# Altium schematic symbol library WE-CBF_0402.SchLib: 34 symbols
Pins are listed as number, name and electrical type; pins without a type are passive.

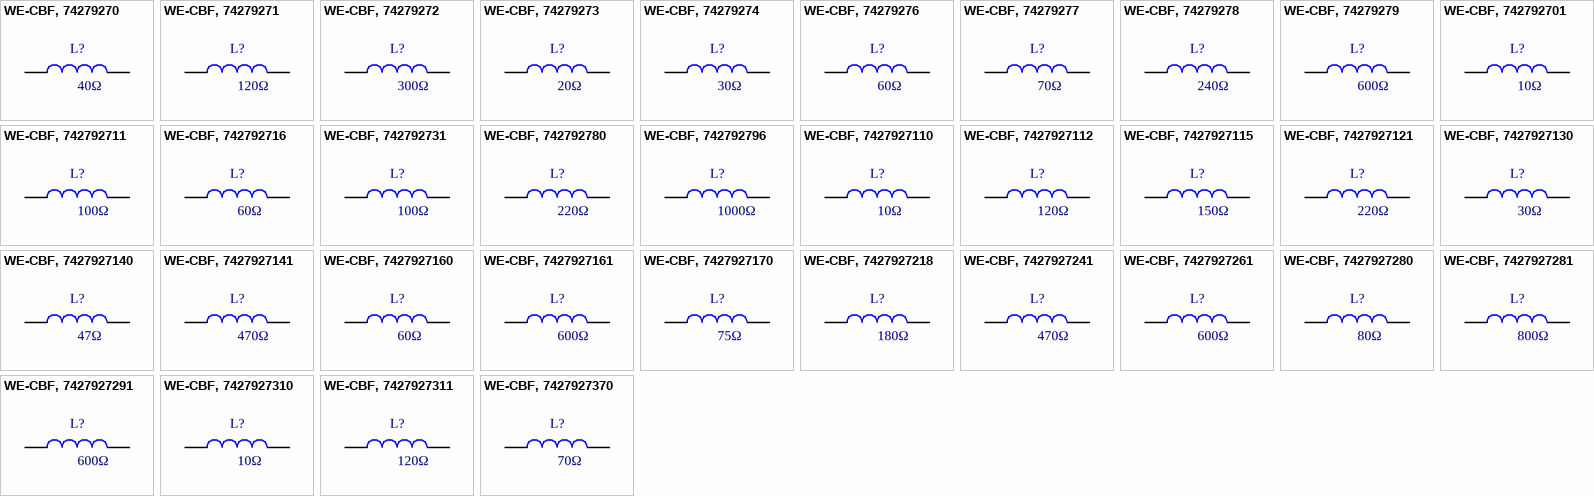
[diagram p0: symbols WE-CBF, 74279270 to WE-CBF, 7427927370]

## WE-CBF, 74279270
designator L?, comment 40Ω
WE-CBF SMD EMI Suppression Ferrite Bead, 0402, 40Ω; PartNumber: 74279270; Type: Wide Band; PublishedDate: Aug 2016; Publisher: Wurth Elektronik; ComponentLink1Description: Manufacturer; ComponentLink1URL: http://www.we-online.de; ComponentLink2Description: Datasheet; ComponentLink2URL: http://katalog.we-online.de/pbs/datasheet/74279270.pdf; Value: 40Ω; Size: 0402
footprint WE-CBF_0402_Wide Band
pins: 1, 2

## WE-CBF, 74279271
designator L?, comment 120Ω
WE-CBF SMD EMI Suppression Ferrite Bead, 0402, 120Ω; PartNumber: 74279271; Type: Wide Band; PublishedDate: Aug 2016; Publisher: Wurth Elektronik; ComponentLink1Description: Manufacturer; ComponentLink1URL: http://www.we-online.de; ComponentLink2Description: Datasheet; ComponentLink2URL: http://katalog.we-online.de/pbs/datasheet/74279271.pdf; Value: 120Ω; Size: 0402
footprint WE-CBF_0402_Wide Band
pins: 1, 2

## WE-CBF, 74279272
designator L?, comment 300Ω
WE-CBF SMD EMI Suppression Ferrite Bead, 0402, 300Ω; PartNumber: 74279272; Type: Wide Band; PublishedDate: Aug 2016; Publisher: Wurth Elektronik; ComponentLink1Description: Manufacturer; ComponentLink1URL: http://www.we-online.de; ComponentLink2Description: Datasheet; ComponentLink2URL: http://katalog.we-online.de/pbs/datasheet/74279272.pdf; Value: 300Ω; Size: 0402
footprint WE-CBF_0402_Wide Band
pins: 1, 2

## WE-CBF, 74279273
designator L?, comment 20Ω
WE-CBF SMD EMI Suppression Ferrite Bead, 0402, 20Ω; PartNumber: 74279273; Type: High Speed; PublishedDate: Aug 2016; Publisher: Wurth Elektronik; ComponentLink1Description: Manufacturer; ComponentLink1URL: http://www.we-online.de; ComponentLink2Description: Datasheet; ComponentLink2URL: http://katalog.we-online.de/pbs/datasheet/74279273.pdf; Value: 20Ω; Size: 0402
footprint WE-CBF_0402_High Speed
pins: 1, 2

## WE-CBF, 74279274
designator L?, comment 30Ω
WE-CBF SMD EMI Suppression Ferrite Bead, 0402, 30Ω; PartNumber: 74279274; Type: Wide Band; PublishedDate: Aug 2016; Publisher: Wurth Elektronik; ComponentLink1Description: Manufacturer; ComponentLink1URL: http://www.we-online.de; ComponentLink2Description: Datasheet; ComponentLink2URL: http://katalog.we-online.de/pbs/datasheet/74279274.pdf; Value: 30Ω; Size: 0402
footprint WE-CBF_0402_Wide Band
pins: 1, 2

## WE-CBF, 74279276
designator L?, comment 60Ω
WE-CBF SMD EMI Suppression Ferrite Bead, 0402, 60Ω; PartNumber: 74279276; Type: Wide Band; PublishedDate: Aug 2016; Publisher: Wurth Elektronik; ComponentLink1Description: Manufacturer; ComponentLink1URL: http://www.we-online.de; ComponentLink2Description: Datasheet; ComponentLink2URL: http://katalog.we-online.de/pbs/datasheet/74279276.pdf; Value: 60Ω; Size: 0402
footprint WE-CBF_0402_Wide Band
pins: 1, 2

## WE-CBF, 74279277
designator L?, comment 70Ω
WE-CBF SMD EMI Suppression Ferrite Bead, 0402, 70Ω; PartNumber: 74279277; Type: Wide Band; PublishedDate: Aug 2016; Publisher: Wurth Elektronik; ComponentLink1Description: Manufacturer; ComponentLink1URL: http://www.we-online.de; ComponentLink2Description: Datasheet; ComponentLink2URL: http://katalog.we-online.de/pbs/datasheet/74279277.pdf; Value: 70Ω; Size: 0402
footprint WE-CBF_0402_Wide Band
pins: 1, 2

## WE-CBF, 74279278
designator L?, comment 240Ω
WE-CBF SMD EMI Suppression Ferrite Bead, 0402, 240Ω; PartNumber: 74279278; Type: Wide Band; PublishedDate: Aug 2016; Publisher: Wurth Elektronik; ComponentLink1Description: Manufacturer; ComponentLink1URL: http://www.we-online.de; ComponentLink2Description: Datasheet; ComponentLink2URL: http://katalog.we-online.de/pbs/datasheet/74279278.pdf; Value: 240Ω; Size: 0402
footprint WE-CBF_0402_Wide Band
pins: 1, 2

## WE-CBF, 74279279
designator L?, comment 600Ω
WE-CBF SMD EMI Suppression Ferrite Bead, 0402, 600Ω; PartNumber: 74279279; Type: Wide Band; PublishedDate: Aug 2016; Publisher: Wurth Elektronik; ComponentLink1Description: Manufacturer; ComponentLink1URL: http://www.we-online.de; ComponentLink2Description: Datasheet; ComponentLink2URL: http://katalog.we-online.de/pbs/datasheet/74279279.pdf; Value: 600Ω; Size: 0402
footprint WE-CBF_0402_Wide Band
pins: 1, 2

## WE-CBF, 742792701
designator L?, comment 10Ω
WE-CBF SMD EMI Suppression Ferrite Bead, 0402, 10Ω; PartNumber: 742792701; Type: Wide Band; PublishedDate: Aug 2016; Publisher: Wurth Elektronik; ComponentLink1Description: Manufacturer; ComponentLink1URL: http://www.we-online.de; ComponentLink2Description: Datasheet; ComponentLink2URL: http://katalog.we-online.de/pbs/datasheet/742792701.pdf; Value: 10Ω; Size: 0402
footprint WE-CBF_0402_Wide Band
pins: 1, 2

## WE-CBF, 742792711
designator L?, comment 100Ω
WE-CBF SMD EMI Suppression Ferrite Bead, 0402, 100Ω; PartNumber: 742792711; Type: High Speed; PublishedDate: Aug 2016; Publisher: Wurth Elektronik; ComponentLink1Description: Manufacturer; ComponentLink1URL: http://www.we-online.de; ComponentLink2Description: Datasheet; ComponentLink2URL: http://katalog.we-online.de/pbs/datasheet/742792711.pdf; Value: 100Ω; Size: 0402
footprint WE-CBF_0402_High Speed
pins: 1, 2

## WE-CBF, 742792716
designator L?, comment 60Ω
WE-CBF SMD EMI Suppression Ferrite Bead, 0402, 60Ω; PartNumber: 742792716; Type: High Speed; PublishedDate: Aug 2016; Publisher: Wurth Elektronik; ComponentLink1Description: Manufacturer; ComponentLink1URL: http://www.we-online.de; ComponentLink2Description: Datasheet; ComponentLink2URL: http://katalog.we-online.de/pbs/datasheet/742792716.pdf; Value: 60Ω; Size: 0402
footprint WE-CBF_0402_High Speed
pins: 1, 2

## WE-CBF, 742792731
designator L?, comment 100Ω
WE-CBF SMD EMI Suppression Ferrite Bead, 0402, 100Ω; PartNumber: 742792731; Type: High Current; PublishedDate: Aug 2016; Publisher: Wurth Elektronik; ComponentLink1Description: Manufacturer; ComponentLink1URL: http://www.we-online.de; ComponentLink2Description: Datasheet; ComponentLink2URL: http://katalog.we-online.de/pbs/datasheet/742792731.pdf; Value: 100Ω; Size: 0402
footprint WE-CBF_0402_High Current
pins: 1, 2

## WE-CBF, 742792780
designator L?, comment 220Ω
WE-CBF SMD EMI Suppression Ferrite Bead, 0402, 220Ω; PartNumber: 742792780; Type: Wide Band; PublishedDate: Aug 2016; Publisher: Wurth Elektronik; ComponentLink1Description: Manufacturer; ComponentLink1URL: http://www.we-online.de; ComponentLink2Description: Datasheet; ComponentLink2URL: http://katalog.we-online.de/pbs/datasheet/742792780.pdf; Value: 220Ω; Size: 0402
footprint WE-CBF_0402_Wide Band
pins: 1, 2

## WE-CBF, 742792796
designator L?, comment 1000Ω
WE-CBF SMD EMI Suppression Ferrite Bead, 0402, 1000Ω; PartNumber: 742792796; Type: Wide Band; PublishedDate: Aug 2016; Publisher: Wurth Elektronik; ComponentLink1Description: Manufacturer; ComponentLink1URL: http://www.we-online.de; ComponentLink2Description: Datasheet; ComponentLink2URL: http://katalog.we-online.de/pbs/datasheet/742792796.pdf; Value: 1000Ω; Size: 0402
footprint WE-CBF_0402_Wide Band
pins: 1, 2

## WE-CBF, 7427927110
designator L?, comment 10Ω
WE-CBF SMD EMI Suppression Ferrite Bead, 0402, 10Ω; PartNumber: 7427927110; Type: High Speed; PublishedDate: Aug 2016; Publisher: Wurth Elektronik; ComponentLink1Description: Manufacturer; ComponentLink1URL: http://www.we-online.de; ComponentLink2Description: Datasheet; ComponentLink2URL: http://katalog.we-online.de/pbs/datasheet/7427927110.pdf; Value: 10Ω; Size: 0402
footprint WE-CBF_0402_High Speed
pins: 1, 2

## WE-CBF, 7427927112
designator L?, comment 120Ω
WE-CBF SMD EMI Suppression Ferrite Bead, 0402, 120Ω; PartNumber: 7427927112; Type: High Speed; PublishedDate: Aug 2016; Publisher: Wurth Elektronik; ComponentLink1Description: Manufacturer; ComponentLink1URL: http://www.we-online.de; ComponentLink2Description: Datasheet; ComponentLink2URL: http://katalog.we-online.de/pbs/datasheet/7427927112.pdf; Value: 120Ω; Size: 0402
footprint WE-CBF_0402_High Speed
pins: 1, 2

## WE-CBF, 7427927115
designator L?, comment 150Ω
WE-CBF SMD EMI Suppression Ferrite Bead, 0402, 150Ω; PartNumber: 7427927115; Type: High Speed; PublishedDate: Aug 2016; Publisher: Wurth Elektronik; ComponentLink1Description: Manufacturer; ComponentLink1URL: http://www.we-online.de; ComponentLink2Description: Datasheet; ComponentLink2URL: http://katalog.we-online.de/pbs/datasheet/7427927115.pdf; Value: 150Ω; Size: 0402
footprint WE-CBF_0402_High Speed
pins: 1, 2

## WE-CBF, 7427927121
designator L?, comment 220Ω
WE-CBF SMD EMI Suppression Ferrite Bead, 0402, 220Ω; PartNumber: 7427927121; Type: High Speed; PublishedDate: Aug 2016; Publisher: Wurth Elektronik; ComponentLink1Description: Manufacturer; ComponentLink1URL: http://www.we-online.de; ComponentLink2Description: Datasheet; ComponentLink2URL: http://katalog.we-online.de/pbs/datasheet/7427927121.pdf; Value: 220Ω; Size: 0402
footprint WE-CBF_0402_High Speed
pins: 1, 2

## WE-CBF, 7427927130
designator L?, comment 30Ω
WE-CBF SMD EMI Suppression Ferrite Bead, 0402, 30Ω; PartNumber: 7427927130; Type: High Speed; PublishedDate: Aug 2016; Publisher: Wurth Elektronik; ComponentLink1Description: Manufacturer; ComponentLink1URL: http://www.we-online.de; ComponentLink2Description: Datasheet; ComponentLink2URL: http://katalog.we-online.de/pbs/datasheet/7427927130.pdf; Value: 30Ω; Size: 0402
footprint WE-CBF_0402_High Speed
pins: 1, 2

## WE-CBF, 7427927140
designator L?, comment 47Ω
WE-CBF SMD EMI Suppression Ferrite Bead, 0402, 47Ω; PartNumber: 7427927140; Type: High Speed; PublishedDate: Aug 2016; Publisher: Wurth Elektronik; ComponentLink1Description: Manufacturer; ComponentLink1URL: http://www.we-online.de; ComponentLink2Description: Datasheet; ComponentLink2URL: http://katalog.we-online.de/pbs/datasheet/7427927140.pdf; Value: 47Ω; Size: 0402
footprint WE-CBF_0402_High Speed
pins: 1, 2

## WE-CBF, 7427927141
designator L?, comment 470Ω
WE-CBF SMD EMI Suppression Ferrite Bead, 0402, 470Ω; PartNumber: 7427927141; Type: High Speed; PublishedDate: Aug 2016; Publisher: Wurth Elektronik; ComponentLink1Description: Manufacturer; ComponentLink1URL: http://www.we-online.de; ComponentLink2Description: Datasheet; ComponentLink2URL: http://katalog.we-online.de/pbs/datasheet/7427927141.pdf; Value: 470Ω; Size: 0402
footprint WE-CBF_0402_High Speed
pins: 1, 2

## WE-CBF, 7427927160
designator L?, comment 60Ω
WE-CBF SMD EMI Suppression Ferrite Bead, 0402, 60Ω; PartNumber: 7427927160; Type: High Speed; PublishedDate: Aug 2016; Publisher: Wurth Elektronik; ComponentLink1Description: Manufacturer; ComponentLink1URL: http://www.we-online.de; ComponentLink2Description: Datasheet; ComponentLink2URL: http://katalog.we-online.de/pbs/datasheet/7427927160.pdf; Value: 60Ω; Size: 0402
footprint WE-CBF_0402_High Speed
pins: 1, 2

## WE-CBF, 7427927161
designator L?, comment 600Ω
WE-CBF SMD EMI Suppression Ferrite Bead, 0402, 600Ω; PartNumber: 7427927161; Type: High Speed; PublishedDate: Aug 2016; Publisher: Wurth Elektronik; ComponentLink1Description: Manufacturer; ComponentLink1URL: http://www.we-online.de; ComponentLink2Description: Datasheet; ComponentLink2URL: http://katalog.we-online.de/pbs/datasheet/7427927161.pdf; Value: 600Ω; Size: 0402
footprint WE-CBF_0402_High Speed
pins: 1, 2

## WE-CBF, 7427927170
designator L?, comment 75Ω
WE-CBF SMD EMI Suppression Ferrite Bead, 0402, 75Ω; PartNumber: 7427927170; Type: High Speed; PublishedDate: Aug 2016; Publisher: Wurth Elektronik; ComponentLink1Description: Manufacturer; ComponentLink1URL: http://www.we-online.de; ComponentLink2Description: Datasheet; ComponentLink2URL: http://katalog.we-online.de/pbs/datasheet/7427927170.pdf; Value: 75Ω; Size: 0402
footprint WE-CBF_0402_High Speed
pins: 1, 2

## WE-CBF, 7427927218
designator L?, comment 180Ω
WE-CBF SMD EMI Suppression Ferrite Bead, 0402, 180Ω; PartNumber: 7427927218; Type: Wide Band; PublishedDate: Aug 2016; Publisher: Wurth Elektronik; ComponentLink1Description: Manufacturer; ComponentLink1URL: http://www.we-online.de; ComponentLink2Description: Datasheet; ComponentLink2URL: http://katalog.we-online.de/pbs/datasheet/7427927218.pdf; Value: 180Ω; Size: 0402
footprint WE-CBF_0402_Wide Band
pins: 1, 2

## WE-CBF, 7427927241
designator L?, comment 470Ω
WE-CBF SMD EMI Suppression Ferrite Bead, 0402, 470Ω; PartNumber: 7427927241; Type: Wide Band; PublishedDate: Aug 2016; Publisher: Wurth Elektronik; ComponentLink1Description: Manufacturer; ComponentLink1URL: http://www.we-online.de; ComponentLink2Description: Datasheet; ComponentLink2URL: http://katalog.we-online.de/pbs/datasheet/7427927241.pdf; Value: 470Ω; Size: 0402
footprint WE-CBF_0402_Wide Band
pins: 1, 2

## WE-CBF, 7427927261
designator L?, comment 600Ω
WE-CBF SMD EMI Suppression Ferrite Bead, 0402, 600Ω; PartNumber: 7427927261; Type: Wide Band; PublishedDate: Aug 2016; Publisher: Wurth Elektronik; ComponentLink1Description: Manufacturer; ComponentLink1URL: http://www.we-online.de; ComponentLink2Description: Datasheet; ComponentLink2URL: http://katalog.we-online.de/pbs/datasheet/7427927261.pdf; Value: 600Ω; Size: 0402
footprint WE-CBF_0402_Wide Band
pins: 1, 2

## WE-CBF, 7427927280
designator L?, comment 80Ω
WE-CBF SMD EMI Suppression Ferrite Bead, 0402, 80Ω; PartNumber: 7427927280; Type: Wide Band; PublishedDate: Aug 2016; Publisher: Wurth Elektronik; ComponentLink1Description: Manufacturer; ComponentLink1URL: http://www.we-online.de; ComponentLink2Description: Datasheet; ComponentLink2URL: http://katalog.we-online.de/pbs/datasheet/7427927280.pdf; Value: 80Ω; Size: 0402
footprint WE-CBF_0402_Wide Band
pins: 1, 2

## WE-CBF, 7427927281
designator L?, comment 800Ω
WE-CBF SMD EMI Suppression Ferrite Bead, 0402, 800Ω; PartNumber: 7427927281; Type: Wide Band; PublishedDate: Aug 2016; Publisher: Wurth Elektronik; ComponentLink1Description: Manufacturer; ComponentLink1URL: http://www.we-online.de; ComponentLink2Description: Datasheet; ComponentLink2URL: http://katalog.we-online.de/pbs/datasheet/7427927281.pdf; Value: 800Ω; Size: 0402
footprint WE-CBF_0402_Wide Band
pins: 1, 2

## WE-CBF, 7427927291
designator L?, comment 600Ω
WE-CBF SMD EMI Suppression Ferrite Bead, 0402, 600Ω; PartNumber: 7427927291; Type: Wide Band; PublishedDate: Aug 2016; Publisher: Wurth Elektronik; ComponentLink1Description: Manufacturer; ComponentLink1URL: http://www.we-online.de; ComponentLink2Description: Datasheet; ComponentLink2URL: http://katalog.we-online.de/pbs/datasheet/7427927291.pdf; Value: 600Ω; Size: 0402
footprint WE-CBF_0402_Wide Band
pins: 1, 2

## WE-CBF, 7427927310
designator L?, comment 10Ω
WE-CBF SMD EMI Suppression Ferrite Bead, 0402, 10Ω; PartNumber: 7427927310; Type: High Current; PublishedDate: Aug 2016; Publisher: Wurth Elektronik; ComponentLink1Description: Manufacturer; ComponentLink1URL: http://www.we-online.de; ComponentLink2Description: Datasheet; ComponentLink2URL: http://katalog.we-online.de/pbs/datasheet/7427927310.pdf; Value: 10Ω; Size: 0402
footprint WE-CBF_0402_High Current
pins: 1, 2

## WE-CBF, 7427927311
designator L?, comment 120Ω
WE-CBF SMD EMI Suppression Ferrite Bead, 0402, 120Ω; PartNumber: 7427927311; Type: High Current; PublishedDate: Aug 2016; Publisher: Wurth Elektronik; ComponentLink1Description: Manufacturer; ComponentLink1URL: http://www.we-online.de; ComponentLink2Description: Datasheet; ComponentLink2URL: http://katalog.we-online.de/pbs/datasheet/7427927311.pdf; Value: 120Ω; Size: 0402
footprint WE-CBF_0402_High Current
pins: 1, 2

## WE-CBF, 7427927370
designator L?, comment 70Ω
WE-CBF SMD EMI Suppression Ferrite Bead, 0402, 70Ω; PartNumber: 7427927370; Type: High Current; PublishedDate: Aug 2016; Publisher: Wurth Elektronik; ComponentLink1Description: Manufacturer; ComponentLink1URL: http://www.we-online.de; ComponentLink2Description: Datasheet; ComponentLink2URL: http://katalog.we-online.de/pbs/datasheet/7427927370.pdf; Value: 70Ω; Size: 0402
footprint WE-CBF_0402_High Current
pins: 1, 2